# Altium footprint library PcbLib1.PcbLib: 42 footprints (part 3 of 3)
Each footprint in its own frame and in the unit in brackets; x right, y up, seen from the top. Pads: shape width x height; smd on the part's side, far side on the other; paste and mask are expansions set on the pad; w line width, h text height; cw(c..) or ccw(c..) is an arc to the next point about the centre after c.
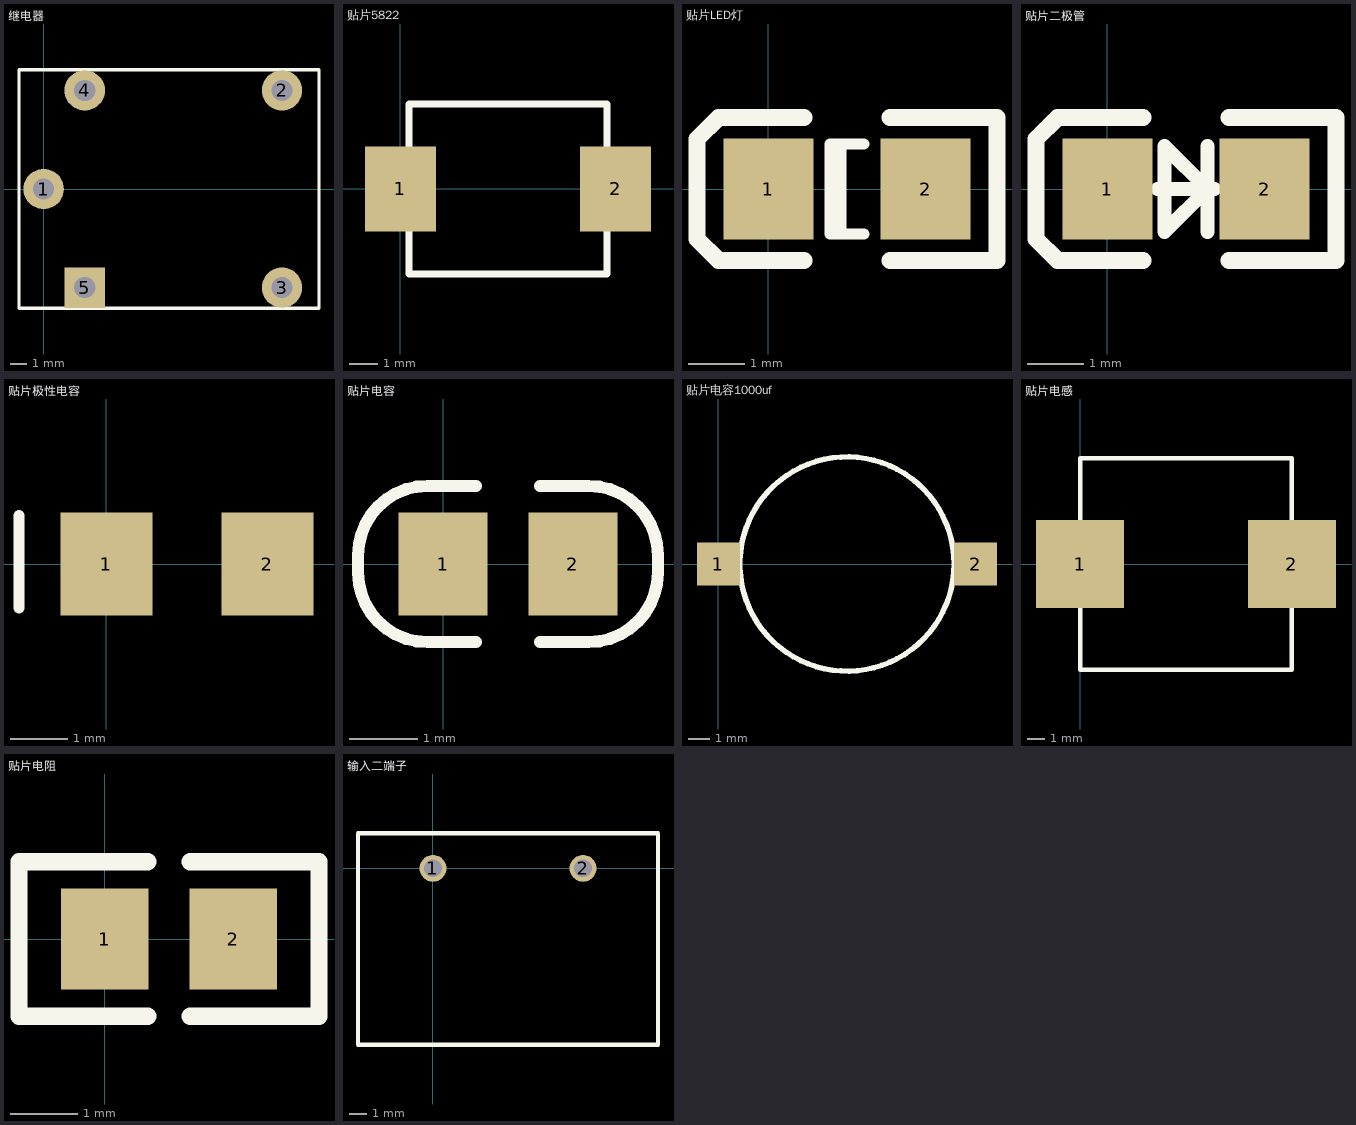
[diagram p2: the footprints below, top view; thin cyan lines are the x and y axes]

## 继电器 [mm]
pads (5):
  round 2.5 hole 1.3: 1(0,0) 2(14.732,6.096) 3(14.732,-6.096) 4(2.54,6.096)
  rect 2.5x2.5 hole 1.3: 5(2.54,-6.096)
Top Overlay:
  lines w0.2: -1.118,-7.366 -1.524,-7.366 ; -1.524,-7.366 17.018,-7.366 17.018,7.366 -1.524,7.366 -1.524,-7.366

## 贴片5822 [mm]
pads (2):
  rect 2.5x3 smd: 1(0,0) 2(7.6,0)
Top Overlay:
  lines w0.255: 0.3,-3 0.3,3 7.3,3 7.3,-3 0.3,-3

## 贴片LED灯 [mm]
pads (2):
  rect 1.6x1.8 smd: 1(0,0) 2(2.8,0)
Top Overlay:
  lines w0.2: 1.29,-0.8 1.29,0.8 ; 1.7,-0.8 1.1,-0.8 1.1,0.8 1.7,0.8
  lines w0.305: 0.635,-1.27 -0.889,-1.27 -1.27,-0.889 -1.27,0.889 -0.889,1.27 0.635,1.27 ; 2.165,-1.27 4.07,-1.27 4.07,1.27 2.165,1.27

## 贴片二极管 [mm]
pads (2):
  rect 1.6x1.8 smd: 1(0,0) 2(2.8,0)
Top Overlay:
  lines w0.254: 0.892,0 1.908,0 ; 1.781,-0.762 1.781,0.762 ; 1.019,-0.762 1.781,0 1.019,0.762 1.019,-0.762
  lines w0.305: 0.635,-1.27 -0.889,-1.27 -1.27,-0.889 -1.27,0.889 -0.889,1.27 0.635,1.27 ; 2.165,-1.27 4.07,-1.27 4.07,1.27 2.165,1.27

## 贴片极性电容 [mm]
pads (2):
  rect 1.6x1.8 smd: 1(0,0) 2(2.8,0)
Top Overlay:
  lines w0.2: -1.521,-0.762 -1.521,0.838

## 贴片电容 [mm]
pads (2):
  rect 1.3x1.5 smd: 1(0,0) 2(1.9,0)
Top Overlay:
  lines w0.178: 0.483,-1.143 -0.229,-1.143 cw(c-0.229,-0.127) -1.245,-0.127 -1.245,0.127 cw(c-0.229,0.127) -0.229,1.143 0.483,1.143 ; 1.417,-1.143 2.129,-1.143 ccw(c2.129,-0.127) 3.145,-0.127 3.145,0.127 ccw(c2.129,0.127) 2.129,1.143 1.417,1.143

## 贴片电容1000uf [mm]
pads (2):
  rect 2x2 smd: 1(0,0) 2(12,0)
Top Overlay:
  circle w0.254: c6,0 r5

## 贴片电感 [mm]
pads (2):
  rect 5x5 smd: 1(0,0) 2(12,0)
Top Overlay:
  lines w0.255: 0,-6 0,6 12,6 12,-6 0,-6

## 贴片电阻 [mm]
pads (2):
  rect 1.3x1.5 smd: 1(0,0) 2(1.9,0)
Top Overlay:
  lines w0.254: 0.635,-1.143 -1.27,-1.143 -1.27,1.143 0.635,1.143 ; 1.265,-1.143 3.17,-1.143 3.17,1.143 1.265,1.143

## 输入二端子 [mil]
pads (2):
  round 60 hole 39.37: 1(0,0) 2(334.76,0)
Top Overlay:
  lines w10: -167.32,-393.7 501.97,-393.7 501.97,78.74 -167.32,78.74 -167.32,-393.7